# EAGLE library part MC33063ADRJR (library texas)
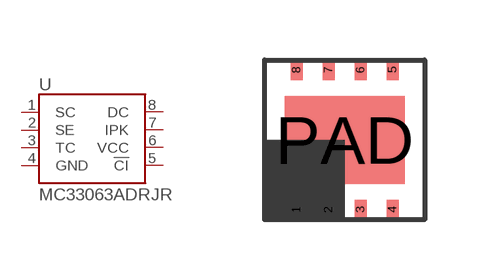
[diagram p127: symbol with the pads of S-PWSON-N8; footprint S-PWSON-N8]

Designator prefix -

## MC33063ADRJR  [S-PWSON-N8]
1  SC  in
2  SE
3  TC
4  GND  sup
5  !CI!  in
6  VCC  pwr
7  IPK  in
8  DC

## Footprint S-PWSON-N8 (pad centres in mm)
smd 0.3 x 0.5: 1 -1.2,-1.75; 2 -0.4,-1.75; 3 0.4,-1.75; 4 1.2,-1.75; 5 1.2,1.75; 6 0.4,1.75; 7 -0.4,1.75; 8 -1.2,1.75
smd 3 x 2.2: PAD 0,0